# Altium footprint library LittleFOC-pcb-0.1.0.PcbLib: 11 footprints
Each footprint in its own frame and in the unit in brackets; x right, y up, seen from the top. Pads: shape width x height; smd on the part's side, far side on the other; paste and mask are expansions set on the pad; w line width, h text height; cw(c..) or ccw(c..) is an arc to the next point about the centre after c.
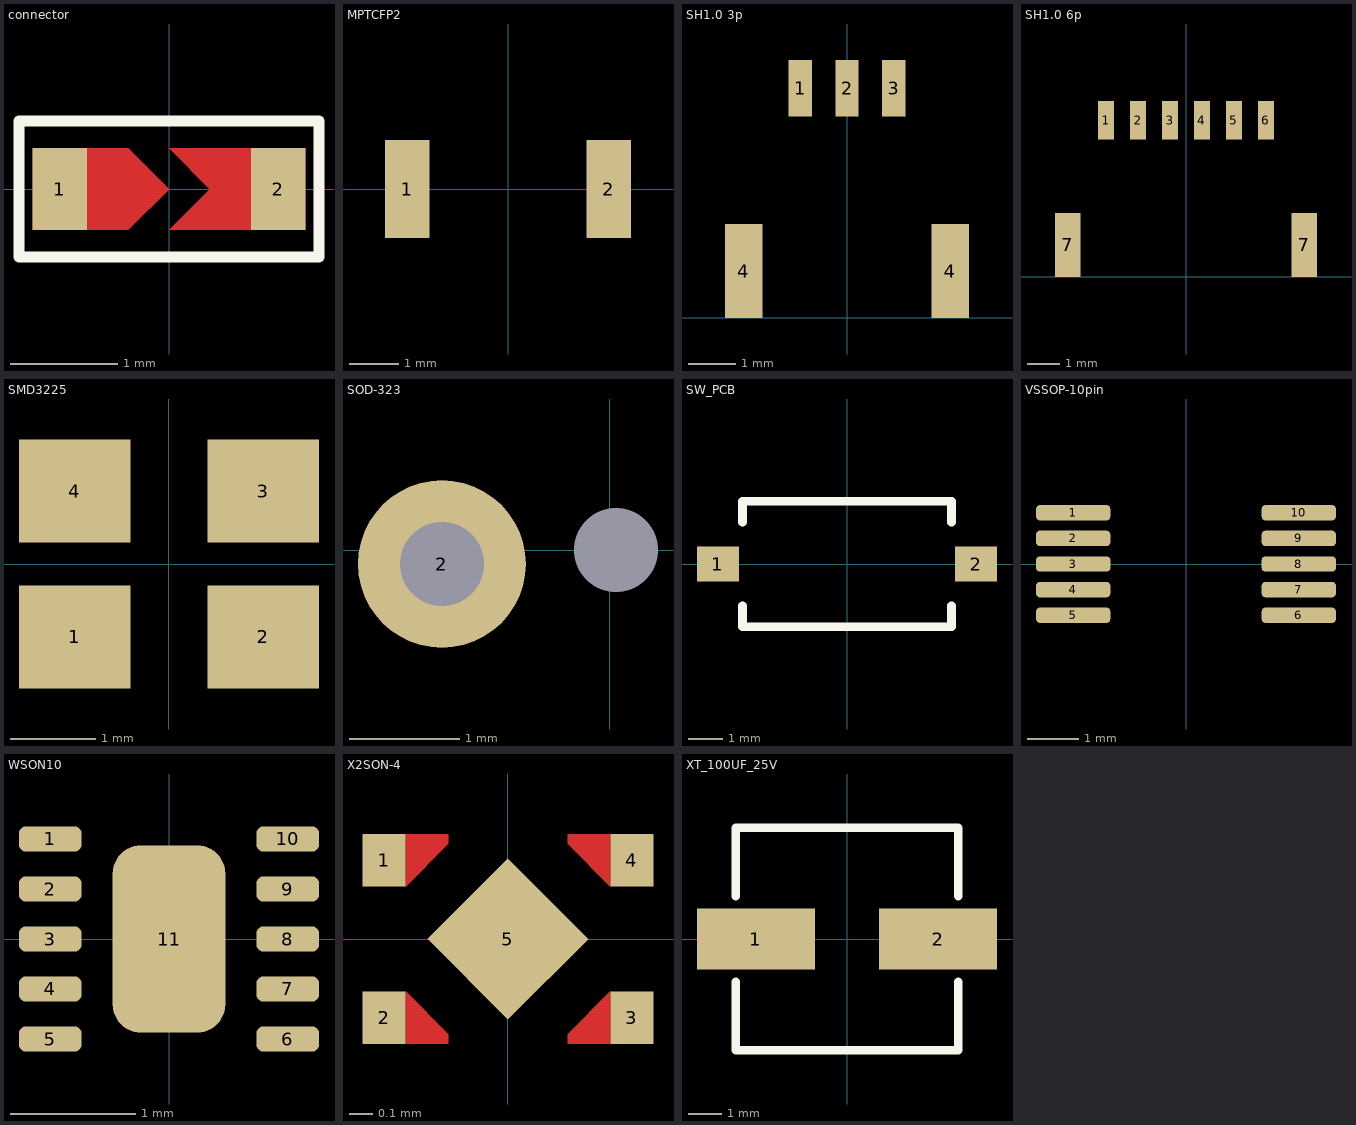
[diagram p0: the footprints below, top view; thin cyan lines are the x and y axes]

## connector [mil]
pads (2):
  rect 20x30 smd: 1(-40,0) 2(40,0)
Top Layer:
  region: 50,15 50,-15 0,-15 15,0 0,15
  region: -50,15 -50,-15 -15,-15 0,0 -15,15
Top Overlay:
  lines w4: -55,-25 55,-25 55,25 -55,25 -55,-25
Top Solder:
  lines w8: -50,-15 -15,-15 0,0 -15,15 -50,15 -50,-15 ; 0,-15 15,0 0,15 50,15 50,-15 0,-15

## MPTCFP2 [mm]
pads (2):
  rect 0.9x2 smd: 1(-2.05,0) 2(2.05,0)

## SH1.0 3p [mm]
pads (5):
  rect 0.5x1.2 smd: 1(-1,4.9) 2(0,4.9) 3(1,4.9)
  rect 0.8x2 smd: 4(-2.2,1) 4(2.2,1)

## SH1.0 6p [mm]
pads (8):
  rect 0.5x1.2 smd: 1(-2.5,4.9) 2(-1.5,4.9) 3(-0.5,4.9) 4(0.5,4.9) 5(1.5,4.9) 6(2.5,4.9)
  rect 0.8x2 smd: 7(-3.7,1) 7(3.7,1)

## SMD3225 [mm]
pads (4):
  rect 1.3x1.2 smd: 1(-1.1,-0.85) 2(1.1,-0.85) 3(1.1,0.85) 4(-1.1,0.85)

## SOD-323 [mil]
pads (2):
  oval 0.63x0.83 hole 30: 1(2.23,0)
  round 60 hole 30: 2(-60,-5)

## SW_PCB [mm]
pads (2):
  rect 1.2x1 smd: 1(-3.7,0) 2(3.7,0)
Top Overlay:
  lines w0.254: -3,-1.2 -3,-1.8 3,-1.8 3,-1.2 ; -3,1.2 -3,1.8 3,1.8 3,1.2

## VSSOP-10pin [mm]
pads (10):
  rrect50% 1.45x0.3 smd: 1(-2.2,1) 2(-2.2,0.5) 3(-2.2,0) 4(-2.2,-0.5) 5(-2.2,-1) 6(2.2,-1) 7(2.2,-0.5) 8(2.2,0) 9(2.2,0.5) 10(2.2,1)

## WSON10 [mm]
pads (11):
  rrect50% 0.5x0.2 smd mask+0.025: 1(-0.95,0.8) 2(-0.95,0.4) 3(-0.95,0) 4(-0.95,-0.4) 5(-0.95,-0.8) 6(0.95,-0.8) 7(0.95,-0.4) 8(0.95,0) 9(0.95,0.4) 10(0.95,0.8)
  rrect50% 0.9x1.5 smd mask+0.025: 11(0,0)

## X2SON-4 [mm]
pads (5):
  rect 0.18x0.22 smd mask+0.025: 1(-0.52,0.33) 2(-0.52,-0.33) 3(0.52,-0.33) 4(0.52,0.33)
  rect 0.48x0.48 smd rot 45 mask+0.025: 5(0,0)
Top Layer:
  region: 0.25,-0.4 0.43,-0.22 0.43,-0.44 0.25,-0.44
  region: 0.43,0.44 0.25,0.44 0.25,0.4 0.43,0.22
  region: -0.43,0.44 -0.25,0.44 -0.25,0.4 -0.43,0.22
  region: -0.43,-0.44 -0.25,-0.44 -0.25,-0.4 -0.43,-0.22

## XT_100UF_25V [mm]
pads (2):
  rect 3.5x1.8 smd: 1(-2.7,0) 2(2.7,0)
Top Overlay:
  lines w0.254: -3.3,-1.27 -3.3,-3.3 3.3,-3.3 3.3,-1.27 ; -3.3,1.27 -3.3,3.3 3.3,3.3 3.3,1.27